# EAGLE library part MAX662A (library kaibader)
MAX662A / ST662A MAXIM +12V, 30mA Flash Memory Programming Supply
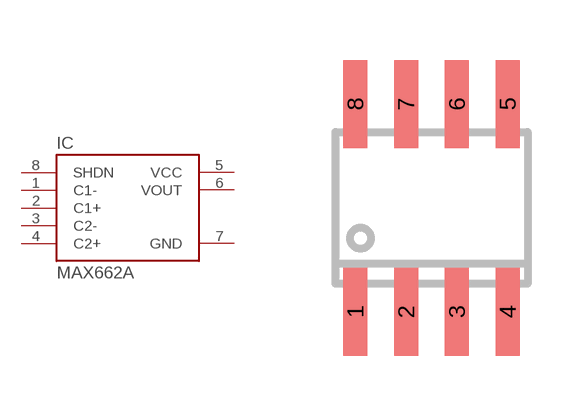
[diagram p5: symbol with the pads of SO08; footprint SO08]

Designator prefix IC

## MAX662A  [SO08]
1  C1-
2  C1+
3  C2-
4  C2+
5  VCC  pwr
6  VOUT  pwr
7  GND  pwr
8  SHDN  in

## Footprint SO08 (pad centres in mm)
SMALL OUTLINE INTEGRATED CIRCUIT body 3.9 mm/JEDEC MS-012AA
smd 0.6 x 2.2: 1 -1.905,-2.6; 2 -0.635,-2.6; 3 0.635,-2.6; 4 1.905,-2.6; 5 1.905,2.6; 6 0.635,2.6; 7 -0.635,2.6; 8 -1.905,2.6